# EAGLE library part NXW-09 (library con-ninigi)
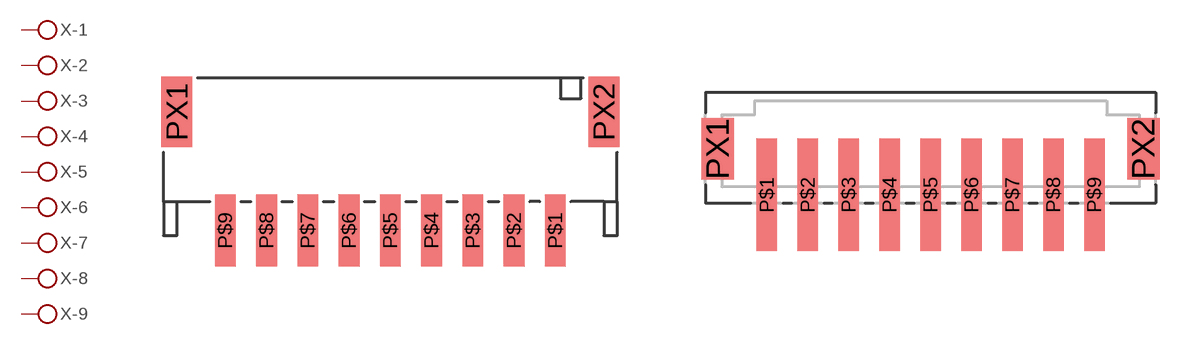
[diagram p4: symbol with the pads of NXW-09SMDK; footprints NXW-09SMDK, NXW-09SMD]

Designator prefix X; gates -1=PIN -2=PIN -3=PIN -4=PIN -5=PIN -6=PIN -7=PIN -8=PIN -9=PIN

## NXW-09SMDK  [NXW-09SMDK]
P$1  -1:P$1
P$2  -2:P$1
P$3  -3:P$1
P$4  -4:P$1
P$5  -5:P$1
P$6  -6:P$1
P$7  -7:P$1
P$8  -8:P$1
P$9  -9:P$1

## NXW-09SMD  [NXW-09SMD]
Pads as for NXW-09SMDK

## Footprint NXW-09SMDK (pad centres in mm)
smd 1 x 3.5: P$1 8,0; P$2 6,0; P$3 4,0; P$4 2,0; P$5 0,0; P$6 -2,0; P$7 -4,0; P$8 -6,0; P$9 -8,0
smd 1.5 x 3.4: PX1 -10.35,5.75; PX2 10.35,5.75

## Footprint NXW-09SMD (pad centres in mm)
smd 1 x 5.5: P$1 -8,0; P$2 -6,0; P$3 -4,0; P$4 -2,0; P$5 0,0; P$6 2,0; P$7 4,0; P$8 6,0; P$9 8,0
smd 1.6 x 3: PX1 -10.4,2.25; PX2 10.4,2.25